# EAGLE library part W25Q16BVSSIG_TR (library W25Q16BVSSIG_TR)
IC FLASH 16M SPI 104MHZ 8SOIC Source: Datasheet <https://media.digikey.com/pdf/Data Sheets/Winbond PDFs/W25Q16BV.pdf>
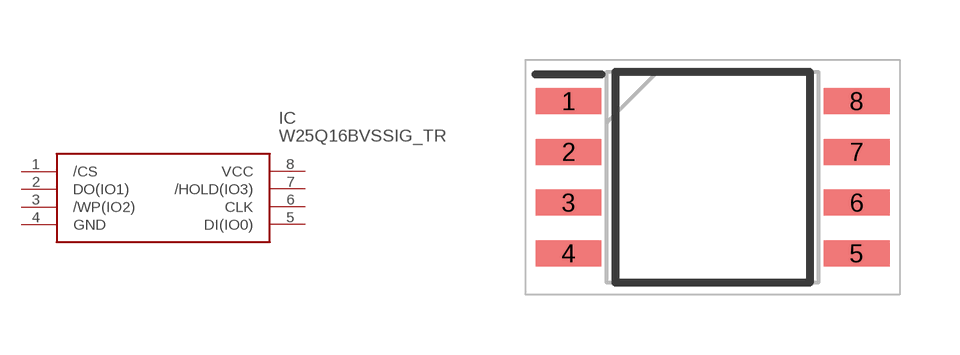
[diagram p0: symbol with the pads of SOIC127P790X216-8N; footprint SOIC127P790X216-8N]

Designator prefix IC

## W25Q16BVSSIG_TR (Description: IC FLASH 16M SPI 104MHZ 8SOIC; Height: 2.16mm; Manufacturer_Name: Winbond; Manufacturer_Part_Number: W25Q16BVSSIG TR; Mouser_Part_Number: N/A; Mouser_Price-Stock: https://www.mouser.co.uk/ProductDetail/Winbond/W25Q16BVSSIG-TR?qs=rkhjVJ6%2F3EKjTa61MhmWkw%3D%3D)  [SOIC127P790X216-8N]
1  /CS
2  DO(IO1)
3  /WP(IO2)
4  GND
5  DI(IO0)
6  CLK
7  /HOLD(IO3)
8  VCC

## Footprint SOIC127P790X216-8N (pad centres in mm)
8-Pin SOIC 208-mil (Package Code SS)
smd 1.65 x 0.65: 1 -3.6,1.905; 2 -3.6,0.635; 3 -3.6,-0.635; 4 -3.6,-1.905; 5 3.6,-1.905; 6 3.6,-0.635; 7 3.6,0.635; 8 3.6,1.905